# EAGLE library part CON6 (library simple-parts)
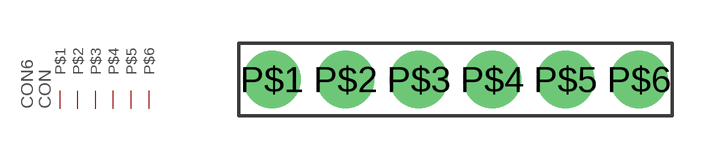
[diagram p3: symbol with the pads of PINPLUG6; footprint PINPLUG6]

Designator prefix CON

## CON6PINPLUG6  [PINPLUG6]
P$1  P$1
P$2  P$2
P$3  P$3
P$4  P$4
P$5  P$5
P$6  P$6

## Footprint PINPLUG6 (pad centres in mm)
drill 0.9 pad 2: P$1 -6.35,0; P$2 -3.81,0; P$3 -1.27,0; P$4 1.27,0; P$5 3.81,0; P$6 6.35,0